# EAGLE library part PHOENIX-651-1935200 (library android-thermostat2)
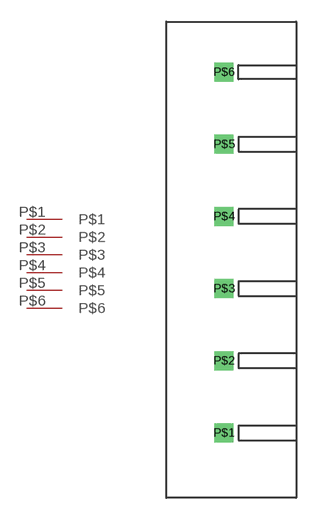
[diagram p0: symbol with the pads of PHOENIX_E_5MM_6PIN; footprint PHOENIX_E_5MM_6PIN]

Designator prefix -

## PHOENIX-651-1935200  [PHOENIX_E_5MM_6PIN]
P$1  P$1
P$2  P$2
P$3  P$3
P$4  P$4
P$5  P$5
P$6  P$6

## Footprint PHOENIX_E_5MM_6PIN (pad centres in mm)
drill 0.8 square: P$1 0,-12.5; P$2 0,-7.5; P$3 0,-2.5; P$4 0,2.5; P$5 0,7.5; P$6 0,12.5